# Altium schematic symbol library Transistor_FET_Other.SchLib: 3 symbols
Pins are listed as number, name and electrical type; pins without a type are passive.

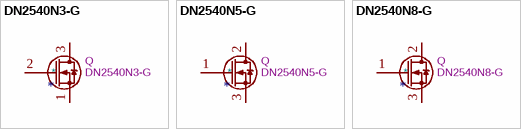
[diagram p0: symbols DN2540N3-G to DN2540N8-G]

## DN2540N3-G
designator *  value DN2540N3-G  Reference: Q
ki_keywords: N-Channel Depletion-Mode MOSFET; ki_description: 150mA Ids, 400 Vds, Depletion-mode N-channel MOSFET, TO-92; ki_fp_filters: TO?92*; Footprint: Package_TO_SOT_THT:TO-92_Inline; Datasheet: https://ww1.microchip.com/downloads/en/DeviceDoc/DN2540%20B060313.pdf
pins: 1 S, 2 G, 3 D

## DN2540N5-G
designator *  value DN2540N5-G  Reference: Q
ki_keywords: N-Channel Depletion-Mode MOSFET; ki_description: 150mA Ids, 400 Vds, Depletion-mode N-channel MOSFET, TO-220; ki_fp_filters: TO?220*; Footprint: Package_TO_SOT_THT:TO-220-3_Vertical; Datasheet: https://ww1.microchip.com/downloads/en/DeviceDoc/DN2540%20B060313.pdf
pins: 1 G, 2 D, 3 S

## DN2540N8-G
designator *  value DN2540N8-G  Reference: Q
ki_keywords: N-Channel Depletion-Mode MOSFET; ki_description: 150mA Ids, 400 Vds, Depletion-mode N-channel MOSFET, SOT-89; ki_fp_filters: SOT?89*; Footprint: Package_TO_SOT_SMD:SOT-89-3; Datasheet: https://ww1.microchip.com/downloads/en/DeviceDoc/DN2540%20B060313.pdf
pins: 1 G, 2 D, 3 S